# EAGLE library part FRDM-K64F (library Freedom)
For creating FRDM-K64F shields
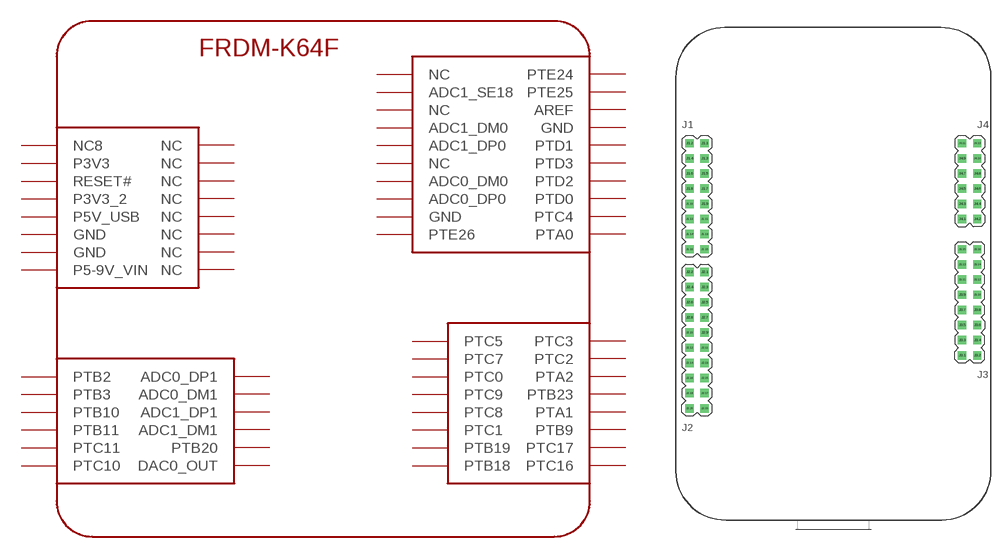
[diagram p0: symbol with the pads of FRDM_K64F; footprint FRDM_K64F]

Designator prefix FRDM

## FRDM-K64FNORMAL  [FRDM_K64F]
J1.1  PTB18
J1.2  PTC16
J1.3  PTB19
J1.4  PTC17
J1.5  PTC1
J1.6  PTB9
J1.7  PTC8
J1.8  PTA1
J1.9  PTC9
J1.10  PTB23
J1.11  PTC0
J1.12  PTA2
J1.13  PTC7
J1.14  PTC2
J1.15  PTC5
J1.16  PTC3
J2.1  PTE26
J2.2  PTA0
J2.3  GND
J2.4  PTC4
J2.5  ADC0_DP0
J2.6  PTD0
J2.7  ADC0_DM0
J2.8  PTD2
J2.9  NC
J2.10  PTD3
J2.11  ADC1_DP0
J2.12  PTD1
J2.13  ADC1_DM0
J2.14  GND
J2.15  NC
J2.16  AREF
J2.17  ADC1_SE18
J2.18  PTE25
J2.19  NC
J2.20  PTE24
J3.1  NC
J3.2  NC
J3.3  NC
J3.4  P3V3
J3.5  NC
J3.6  RESET#
J3.7  NC
J3.8  P3V3_2
J3.9  NC
J3.10  P5V_USB
J3.11  NC
J3.12  GND
J3.13  NC
J3.14  GND
J3.15  NC8
J3.16  P5-9V_VIN
J4.1  ADC0_DP1
J4.2  PTB2
J4.3  ADC0_DM1
J4.4  PTB3
J4.5  ADC1_DP1
J4.6  PTB10
J4.7  ADC1_DM1
J4.8  PTB11
J4.9  PTB20
J4.10  PTC11
J4.11  DAC0_OUT
J4.12  PTC10

## Footprint FRDM_K64F (pad centres in mm)
drill 0.9 square: J1.1 -21.59,17.78; J1.2 -24.13,17.78; J1.3 -21.59,15.24; J1.4 -24.13,15.24; J1.5 -21.59,12.7; J1.6 -24.13,12.7; J1.7 -21.59,10.16; J1.8 -24.13,10.16; J1.9 -21.59,7.62; J1.10 -24.13,7.62; J1.11 -21.59,5.08; J1.12 -24.13,5.08; J1.13 -21.59,2.54; J1.14 -24.13,2.54; J1.15 -21.59,0; J1.16 -24.13,0; J2.1 -21.59,-3.81; J2.2 -24.13,-3.81; J2.3 -21.59,-6.35; J2.4 -24.13,-6.35; J2.5 -21.59,-8.89; J2.6 -24.13,-8.89; J2.7 -21.59,-11.43; J2.8 -24.13,-11.43; J2.9 -21.59,-13.97; J2.10 -24.13,-13.97; J2.11 -21.59,-16.51; J2.12 -24.13,-16.51; J2.13 -21.59,-19.05; J2.14 -24.13,-19.05; J2.15 -21.59,-21.59; J2.16 -24.13,-21.59; J2.17 -21.59,-24.13; J2.18 -24.13,-24.13; J2.19 -21.59,-26.67; J2.20 -24.13,-26.67; J3.1 21.59,-17.78; J3.2 24.13,-17.78; J3.3 21.59,-15.24; J3.4 24.13,-15.24; J3.5 21.59,-12.7; J3.6 24.13,-12.7; J3.7 21.59,-10.16; J3.8 24.13,-10.16; J3.9 21.59,-7.62; J3.10 24.13,-7.62; J3.11 21.59,-5.08; J3.12 24.13,-5.08; J3.13 21.59,-2.54; J3.14 24.13,-2.54; J3.15 21.59,0; J3.16 24.13,0; J4.1 21.59,5.08; J4.2 24.13,5.08; J4.3 21.59,7.62; J4.4 24.13,7.62; J4.5 21.59,10.16; J4.6 24.13,10.16; J4.7 21.59,12.7; J4.8 24.13,12.7; J4.9 21.59,15.24; J4.10 24.13,15.24; J4.11 21.59,17.78; J4.12 24.13,17.78